# Altium integrated library SIM800LCoreboard.IntLib: 1 symbol
Pins are listed as number, name and electrical type; pins without a type are passive.

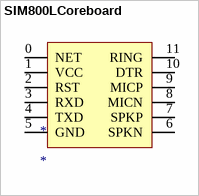
[diagram p0: symbol SIM800LCoreboard]

## SIM800LCoreboard
designator *
footprint SIM800LCoreboard
pins: 0 NET, 1 VCC, 2 RST, 3 RXD, 4 TXD, 5 GND, 6 SPKN, 7 SPKP, 8 MICN, 9 MICP, 10 DTR, 11 RING